# EAGLE library part RP15-1205SA (library doug-custom)
RP15-1205SA isolated DC/DC converter 9-18 VDC input 5 VDC output, 3,000 mA / 15W max
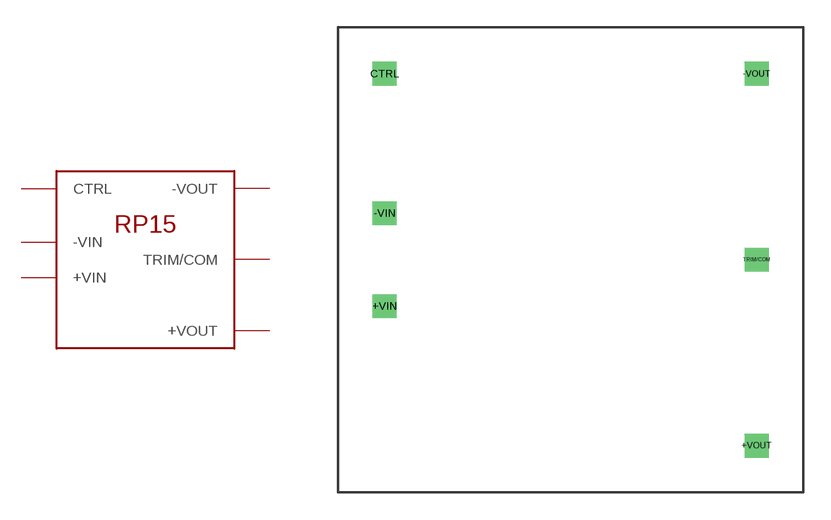
[diagram p0: symbol with the pads of RP15; footprint RP15]

Designator prefix -

## RP15-1205SA  [RP15]
+VIN  +VIN
+VOUT  +VOUT
-VIN  -VIN
-VOUT  -VOUT
CTRL  CTRL
TRIM/COM  TRIM/COM

## Footprint RP15 (pad centres in mm)
drill 0.8 square: +VIN -10.16,-2.54; +VOUT 10.16,-10.16; -VIN -10.16,2.54; -VOUT 10.16,10.16; CTRL -10.16,10.16; TRIM/COM 10.16,0